# EAGLE library part DUPONT-MALE-HORIZONTAL-8PIN (library hqc-connector)
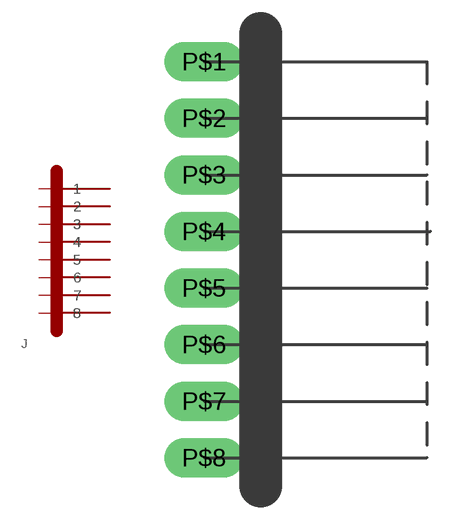
[diagram p1: symbol with the pads of DUPONT-MALE-HORIZONTAL-8PIN; footprint DUPONT-MALE-HORIZONTAL-8PIN]

Designator prefix J

## DUPONT-MALE-HORIZONTAL-8PIN  [DUPONT-MALE-HORIZONTAL-8PIN]
P$1  1
P$2  2
P$3  3
P$4  4
P$5  5
P$6  6
P$7  7
P$8  8

## Footprint DUPONT-MALE-HORIZONTAL-8PIN (pad centres in mm)
drill 1 pad 1.778 long: P$1 -10,7.62; P$2 -10,5.08; P$3 -10,2.54; P$4 -10,0; P$5 -10,-2.54; P$6 -10,-5.08; P$7 -10,-7.62; P$8 -10,-10.16